# Altium footprint library CircuitProtection_Footprints.PcbLib: 1 footprints
Each footprint in its own frame and in the unit in brackets; x right, y up, seen from the top. Pads: shape width x height; smd on the part's side, far side on the other; paste and mask are expansions set on the pad; w line width, h text height; cw(c..) or ccw(c..) is an arc to the next point about the centre after c.
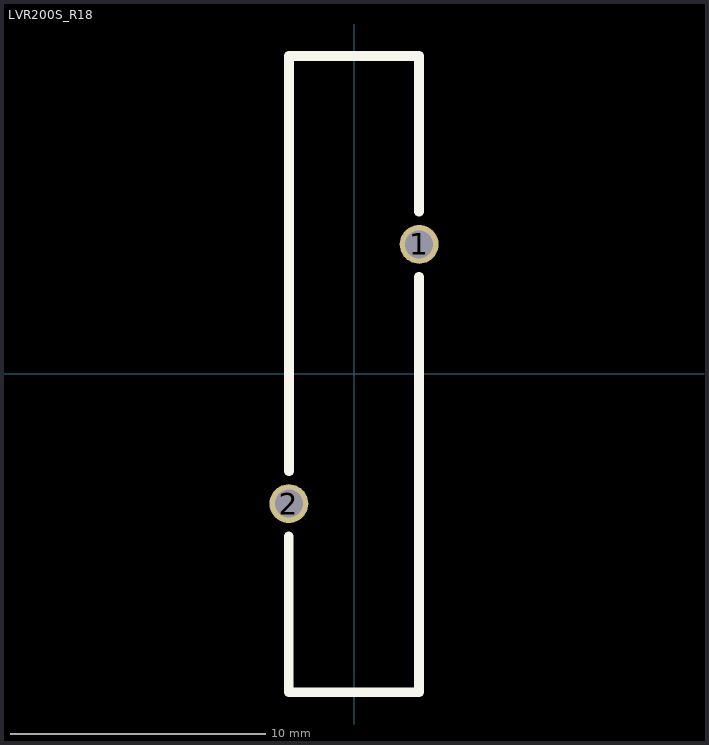
[diagram p0: the footprint, top view; thin cyan lines are the x and y axes]

## LVR200S_R18 [mm] "Footprint for LVR200S Polyswitch"
pads (2):
  round 1.524 hole 1.1: 1(2.55,5.075) 2(-2.55,-5.075)
Top Overlay:
  lines w0.381: -2.55,-6.35 -2.55,-12.45 -2.546,-12.454 2.54,-12.454 ; -2.54,-3.81 -2.54,12.44 -2.55,12.45 2.546,12.45 ; 2.54,3.81 2.54,-12.454 ; 2.548,6.35 2.546,6.352 2.546,12.45 ; 2.55,12.454 2.546,12.45 ; 2.54,-12.454 2.54,-12.454